# EAGLE library part LTC1861-SO8 (library Neel)
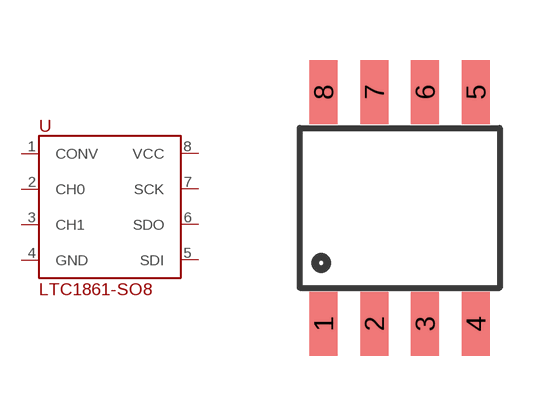
[diagram p56: symbol with the pads of SO-8; footprint SO-8]

Designator prefix -

## LTC1861-SO8  [SO-8]
1  CONV
2  CH0
3  CH1
4  GND
5  SDI
6  SDO
7  SCK
8  VCC

## Footprint SO-8 (pad centres in mm)
smd 0.7 x 1.6: 1 -1.905,-2.9; 2 -0.635,-2.9; 3 0.635,-2.9; 4 1.905,-2.9; 5 1.905,2.9; 6 0.635,2.9; 7 -0.635,2.9; 8 -1.905,2.9